# Altium footprint library Inductor_SMD.PcbLib: 259 footprints (part 3 of 17)
Each footprint in its own frame and in the unit in brackets; x right, y up, seen from the top. Pads: shape width x height; smd on the part's side, far side on the other; paste and mask are expansions set on the pad; w line width, h text height; cw(c..) or ccw(c..) is an arc to the next point about the centre after c.
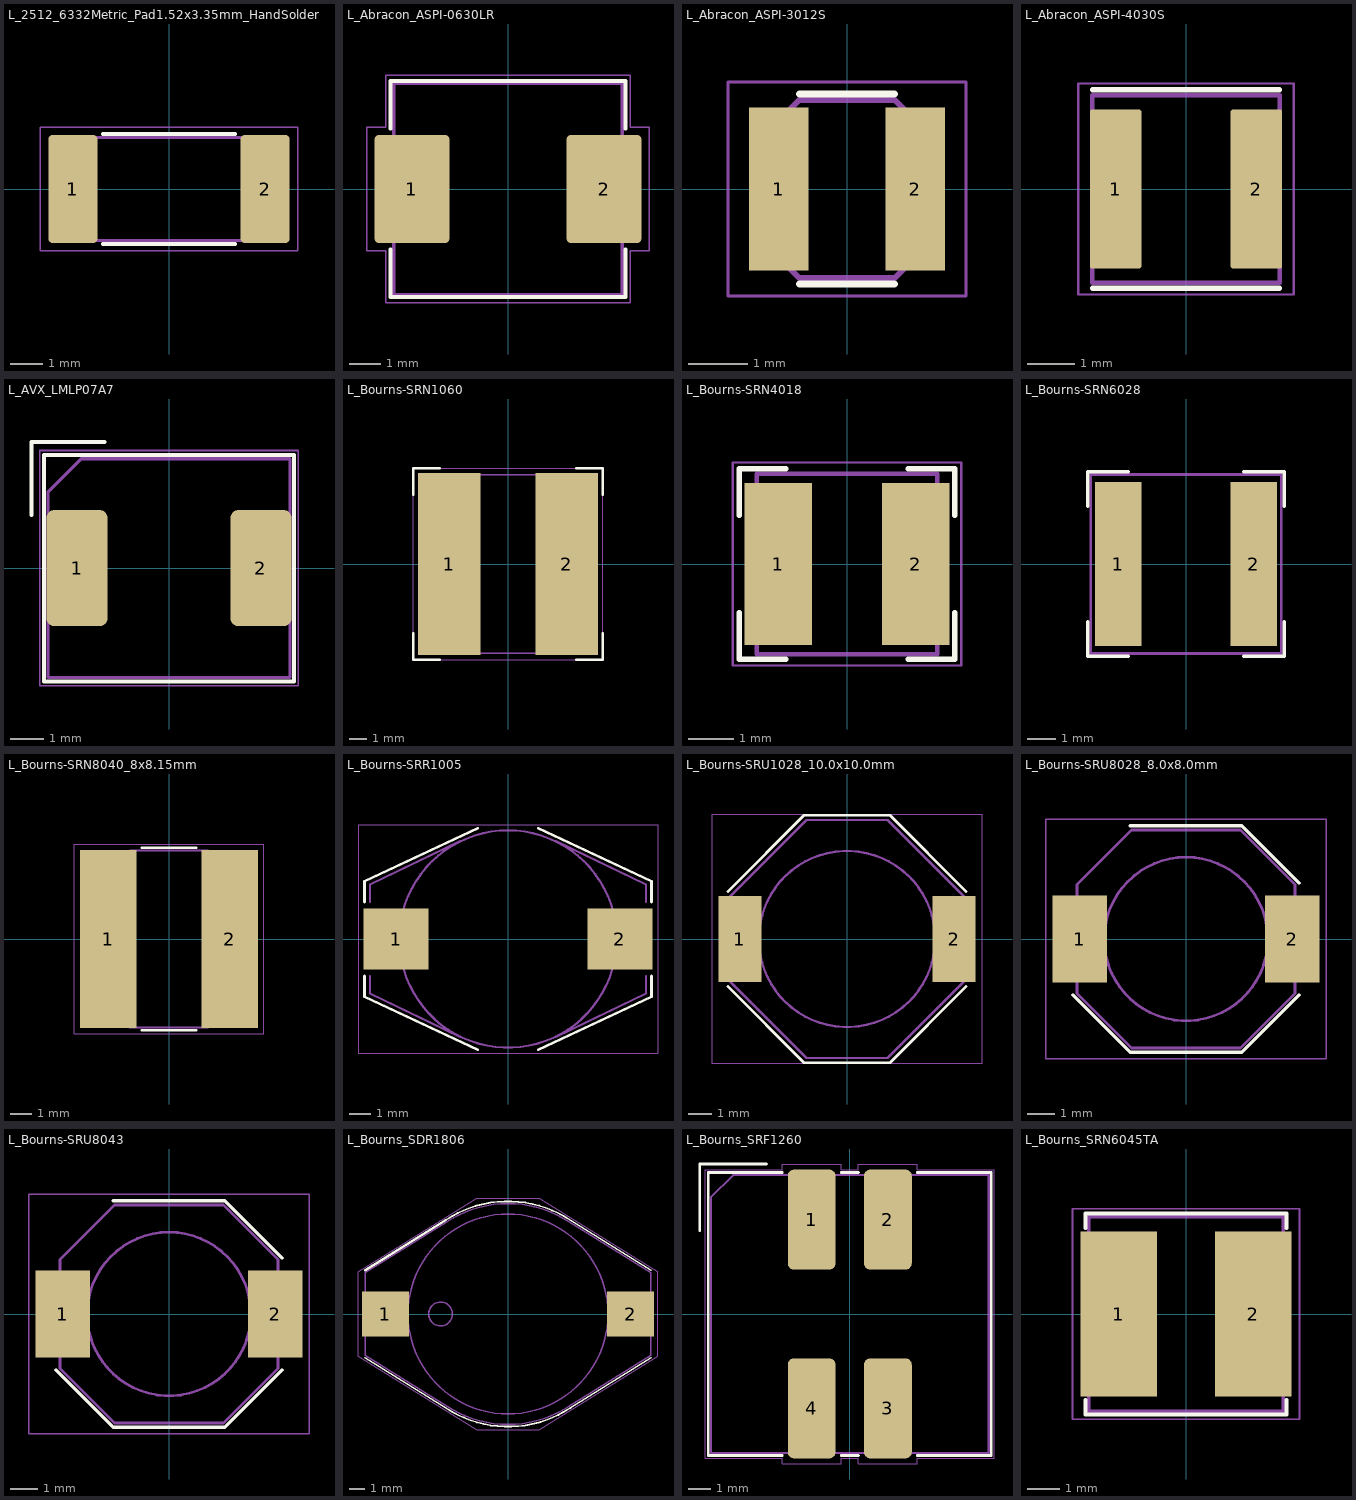
[diagram p2: the footprints below, top view; thin cyan lines are the x and y axes]

## L_2512_6332Metric_Pad1.52x3.35mm_HandSolder [mm]
pads (2):
  rrect16% 1.525x3.35 smd: 1(-2.987,0) 2(2.987,0)
F.SilkS:
  lines w0.12: -2.052,-1.71 2.052,-1.71 ; -2.052,1.71 2.052,1.71
F.CrtYd:
  lines w0.05: -4,-1.92 4,-1.92 4,1.92 -4,1.92 -4,-1.92
F.Fab:
  lines w0.1: -3.15,-1.6 -3.15,1.6 3.15,1.6 3.15,-1.6 -3.15,-1.6
  text "'.Designator'" at -4.047,-0.84 h1
3D body "L_2512_6332Metric.step": height 3.2, standoff 0, extent -3.15,-1.6 3.15,1.6

## L_Abracon_ASPI-0630LR [mm]
pads (2):
  rrect10% 2.35x3.4 smd: 1(-3.025,0) 2(3.025,0)
F.SilkS:
  lines w0.12: -3.7,-1.9 -3.7,-3.4 3.7,-3.4 3.7,-1.9 ; -3.7,1.9 -3.7,3.4 3.7,3.4 3.7,1.9
F.CrtYd:
  lines w0.05: -4.45,-1.95 -3.85,-1.95 -3.85,-3.58 3.85,-3.58 3.85,-1.95 4.45,-1.95 4.45,1.95 3.85,1.95 3.85,3.58 -3.85,3.58 -3.85,1.95 -4.45,1.95 -4.45,-1.95
F.Fab:
  lines w0.1: -3.6,-3.325 3.6,-3.325 3.6,3.325 -3.6,3.325 -3.6,-3.325
  text "'.Designator'" at -4.047,-0.84 h1

## L_Abracon_ASPI-3012S [mm]
pads (2):
  rect 1x2.75 smd: 1(-1.15,0) 2(1.15,0)
F.SilkS:
  lines w0.12: -0.8,-1.6 0.8,-1.6 ; -0.8,1.6 0.8,1.6
F.CrtYd:
  lines w0.05: -2,-1.8 -2,1.8 2,1.8 2,-1.8 -2,-1.8
F.Fab:
  lines w0.1: -1.5,-1.3 -1,-1.3 -0.8,-1.5 0.8,-1.5 1,-1.3 1.5,-1.3 1.5,1.3 1,1.3 0.8,1.5 -0.8,1.5 -1,1.3 -1.5,1.3 -1.5,-1.3
  text "'.Designator'" at -2.833,-0.588 h0.7

## L_Abracon_ASPI-4030S [mm]
pads (2):
  rrect10% 1.1x3.4 smd: 1(-1.5,0) 2(1.5,0)
F.SilkS:
  lines w0.12: -1.99,-2.12 1.99,-2.12 ; -1.99,2.12 1.99,2.12
F.CrtYd:
  lines w0.05: -2.3,-2.25 -2.3,2.25 2.3,2.25 2.3,-2.25 -2.3,-2.25
F.Fab:
  lines w0.1: -2,-2 -2,2 2,2 2,-2 -2,-2
  text "'.Designator'" at -4.047,-0.84 h1

## L_AVX_LMLP07A7 [mm]
pads (2):
  rrect25% 1.85x3.5 smd: 1(-2.775,0) 2(2.775,0)
F.SilkS:
  lines w0.12: -4.15,1.6 -4.15,3.8 -1.95,3.8 ; -3.77,-3.42 -3.77,3.42 3.77,3.42 3.77,-3.42 -3.77,-3.42
F.CrtYd:
  lines w0.05: -3.9,-3.55 -3.9,3.55 3.9,3.55 3.9,-3.55 -3.9,-3.55
F.Fab:
  lines w0.1: -3.65,-3.3 -3.65,2.3 -2.65,3.3 3.65,3.3 3.65,-3.3 -3.65,-3.3
  text "'.Designator'" at -4.047,-0.84 h1

## L_Bourns-SRN1060 [mm]
pads (2):
  rect 3.5x10.2 smd: 1(-3.3,0) 2(3.3,0)
F.SilkS:
  lines w0.12: -5.31,-3.86 -5.31,-5.36 -3.81,-5.36 ; -5.31,3.86 -5.31,5.36 -3.81,5.36 ; 3.81,-5.36 5.31,-5.36 5.31,-3.86 ; 3.81,5.36 5.31,5.36 5.31,3.86
F.CrtYd:
  lines w0.05: -5.3,-5.35 5.3,-5.35 5.3,5.35 -5.3,5.35 -5.3,-5.35
F.Fab:
  lines w0.1: -4.9,-5 -4.9,5 4.9,5 4.9,-5 -4.9,-5
  text "'.Designator'" at -4.047,-0.84 h1

## L_Bourns-SRN4018 [mm]
pads (2):
  rect 1.5x3.6 smd: 1(-1.525,0) 2(1.525,0)
F.SilkS:
  lines w0.12: -2.385,-1.085 -2.385,-2.11 -1.36,-2.11 ; -2.385,1.085 -2.385,2.11 -1.36,2.11 ; 1.36,-2.11 2.385,-2.11 2.385,-1.085 ; 1.36,2.11 2.385,2.11 2.385,1.085
F.CrtYd:
  lines w0.05: -2.53,-2.25 2.53,-2.25 2.53,2.25 -2.53,2.25 -2.53,-2.25
F.Fab:
  lines w0.1: -2,-2 -2,2 2,2 2,-2 -2,-2
  text "'.Designator'" at -4.047,-0.84 h1
3D body "L_Bourns-SRN4018.step": height 1.81, standoff 0, extent -2,-2 2,2

## L_Bourns-SRN6028 [mm]
pads (2):
  rect 1.6x5.7 smd: 1(-2.35,0) 2(2.35,0)
F.SilkS:
  lines w0.12: -3.4,-2 -3.4,-3.2 -2,-3.2 ; -3.4,2 -3.4,3.2 -2,3.2 ; 2,-3.2 3.4,-3.2 3.4,-2 ; 2,3.2 3.4,3.2 3.4,2
F.CrtYd:
  lines w0.05: -3.3,-3.1 -3.3,3.1 3.3,3.1 3.3,-3.1 -3.3,-3.1
F.Fab:
  lines w0.1: -3.3,-3.1 3.3,-3.1 3.3,3.1 -3.3,3.1 -3.3,-3.1
  text "'.Designator'" at -4.047,-0.84 h1
3D body "L_TDK_SLF6028.step": height 2.5, standoff 0, extent -3,-3 3,3

## L_Bourns-SRN8040_8x8.15mm [mm]
pads (2):
  rect 2.6x8.2 smd: 1(-2.8,0) 2(2.8,0)
F.SilkS:
  lines w0.12: -1.25,-4.2 1.25,-4.2 ; -1.25,4.2 1.25,4.2
F.CrtYd:
  lines w0.05: -4.35,-4.35 4.35,-4.35 4.35,4.35 -4.35,4.35 -4.35,-4.35
F.Fab:
  lines w0.1: -4,1.96 -4,-1.96 ccw(c0,0) -1.804,-4.073 ; -3.998,1.965 cw(c0,0) -1.8,4.075 1.8,4.075 ; -1.8,-4.075 1.8,-4.075 ccw(c0,0) 3.998,-1.965 ; 1.8,4.075 cw(c0,0) 4,1.96 4,-1.96
  text "'.Designator'" at -3.92,-0.84 h1

## L_Bourns-SRR1005 [mm]
pads (2):
  rect 3x2.8 smd: 1(-5.15,0) 2(5.15,0)
F.SilkS:
  lines w0.12: -6.6,-1.7 -6.6,-2.65 -1.4,-5.1 ; -6.6,1.7 -6.6,2.65 -1.4,5.1 ; 1.4,-5.1 6.6,-2.65 6.6,-1.7 ; 1.4,5.1 6.6,2.65 6.6,1.7
F.CrtYd:
  lines w0.05: -6.9,-5.25 6.9,-5.25 6.9,5.25 -6.9,5.25 -6.9,-5.25
F.Fab:
  circle w0.1: c0,0 r5
  lines w0.1: -6.35,-1.7 -6.35,-2.5 -2.2,-4.5 ; -6.35,1.7 -6.35,2.5 -2.2,4.5 ; 2.2,-4.5 6.35,-2.5 6.35,-1.7 ; 2.2,4.5 6.35,2.5 6.35,1.7
  text "'.Designator'" at -4.047,-0.84 h1

## L_Bourns-SRU1028_10.0x10.0mm [mm]
pads (2):
  rect 1.8x3.6 smd: 1(-4.5,0) 2(4.5,0)
F.SilkS:
  lines w0.12: -5,-2 -1.8,-5.2 1.8,-5.2 5,-2 ; -5,2 -1.8,5.2 1.8,5.2 5,2
F.CrtYd:
  lines w0.05: -5.65,-5.25 5.65,-5.25 5.65,5.25 -5.65,5.25 -5.65,-5.25
F.Fab:
  circle w0.1: c0,0 r3.7
  lines w0.1: -5,-1.7 -1.7,-5 1.7,-5 5,-1.7 5,1.7 1.7,5 -1.7,5 -5,1.7 -5,-1.7
  text "'.Designator'" at -4.047,-0.84 h1

## L_Bourns-SRU8028_8.0x8.0mm [mm]
pads (2):
  rect 2x3.2 smd: 1(-3.9,0) 2(3.9,0)
F.SilkS:
  lines w0.12: -4.15,-2.05 -2.05,-4.15 2.05,-4.15 4.15,-2.05 ; -2.05,4.15 2.05,4.15 4.15,2.05
F.CrtYd:
  lines w0.05: -5.15,-4.4 5.15,-4.4 5.15,4.4 -5.15,4.4 -5.15,-4.4
F.Fab:
  circle w0.1: c0,0 r3
  lines w0.1: -4,-2 -4,2 -2,4 2,4 4,2 4,-2 2,-4 -2,-4 -4,-2
  text "'.Designator'" at -4.047,-0.84 h1

## L_Bourns-SRU8043 [mm]
pads (2):
  rect 2x3.2 smd: 1(-3.9,0) 2(3.9,0)
F.SilkS:
  lines w0.12: -4.15,-2.05 -2.05,-4.15 2.05,-4.15 4.15,-2.05 ; -2.05,4.15 2.05,4.15 4.15,2.05
F.CrtYd:
  lines w0.05: -5.15,-4.4 -5.15,4.4 5.15,4.4 5.15,-4.4 -5.15,-4.4
F.Fab:
  circle w0.1: c0,0 r3
  lines w0.1: -4,-2 -4,2 -2,4 2,4 4,2 4,-2 2,-4 -2,-4 -4,-2
  text "'.Designator'" at -4.047,-0.84 h1

## L_Bourns_SDR1806 [mm]
pads (2):
  rect 3x2.9 smd: 1(-7.85,0) 2(7.85,0)
F.SilkS:
  lines w0.12: -9.15,-2.8 -4,-6 ccw(c0,0) 3.992,-6.006 ; -3.992,6.006 cw(c0,0) 4,6 9.15,2.8 ; 4,-6 9.15,-2.8
  lines w0.15: -9.15,2.8 -4,6
F.CrtYd:
  lines w0.05: -9.6,-2.7 -2,-7.4 2,-7.4 9.6,-2.7 9.6,2.7 2,7.4 -2,7.4 -9.6,2.7 -9.6,-2.7
F.Fab:
  circle w0.1: c-4.318,0 r0.762
  circle w0.1: c0,0 r6.4
  lines w0.1: -3.9,5.9 -9.15,2.65 -9.15,-2.65 -3.9,-5.9 ccw(c0,0) 3.897,-5.902 ; -3.897,5.902 cw(c0,0) 3.9,5.9 9.15,2.65 9.15,-2.65 3.9,-5.9
  text "'.Designator'" at -4.047,-0.84 h1
3D body "L_Bourns_SDR1806.step": height 6.6, standoff -0.01, extent -9.36,-7.15 9.36,7.15

## L_Bourns_SRF1260 [mm]
pads (4):
  rrect25% 2.15x4.5 smd: 1(-1.715,4.25) 2(1.715,4.25) 3(1.715,-4.25) 4(-1.715,-4.25)
F.SilkS:
  lines w0.12: -6.75,3.75 -6.75,6.75 -3.75,6.75 ; -3.04,-6.37 -6.37,-6.37 -6.37,6.37 -3.04,6.37 ; -0.39,-6.37 0.39,-6.37 ; -0.39,6.37 0.39,6.37 ; 3.04,-6.37 6.37,-6.37 6.37,6.37 3.04,6.37
F.CrtYd:
  lines w0.05: -6.5,-6.5 -3.04,-6.5 -3.04,-6.75 -0.39,-6.75 -0.39,-6.5 0.39,-6.5 0.39,-6.75 3.04,-6.75 3.04,-6.5 6.5,-6.5 6.5,6.5 3.04,6.5 3.04,6.75 0.39,6.75 0.39,6.5 -0.39,6.5 -0.39,6.75 -3.04,6.75 -3.04,6.5 -6.5,6.5 -6.5,-6.5
F.Fab:
  lines w0.1: -6.25,-6.25 6.25,-6.25 6.25,6.25 -5.25,6.25 -6.25,5.25 -6.25,-6.25
  text "'.Designator'" at -4.047,-0.84 h1

## L_Bourns_SRN6045TA [mm]
pads (2):
  rect 2.35x5.1 smd: 1(-2.075,0) 2(2.075,0)
F.SilkS:
  lines w0.12: -3.1,-2.65 -3.1,-3.1 3.1,-3.1 3.1,-2.65 ; -3.1,2.65 -3.1,3.1 3.1,3.1 3.1,2.65
F.CrtYd:
  lines w0.05: -3.5,-3.25 -3.5,3.25 3.5,3.25 3.5,-3.25 -3.5,-3.25
F.Fab:
  lines w0.1: -3,-3 -3,3 3,3 3,-3 -3,-3
  text "'.Designator'" at 0.84,-4.047 h1
3D body "L_Bourns_SRN6045TA.step": height 4.2, standoff 0, extent -3,-3 3,3